# EAGLE library part SWD_DT15-08PA (library RescueRunner)
SWD Programming header (Deutsch DT15-08PA Version) Description: SWD Programming with Deutsch DT15-08PA footprint
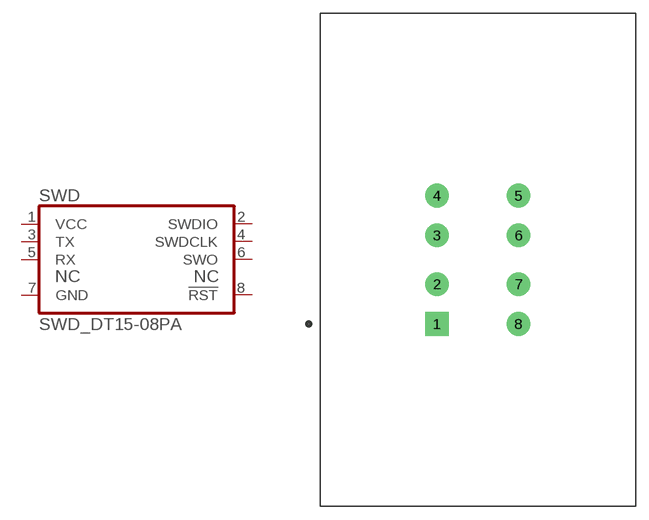
[diagram p23: symbol with the pads of TE_DT15-08PA; footprint TE_DT15-08PA]

Designator prefix SWD

## SWD_DT15-08PA  [TE_DT15-08PA]
1  VCC  pas
2  SWDIO  pas
3  TX  pas
4  SWDCLK  pas
5  RX  pas
6  SWO  pas
7  GND  pas
8  !RST  pas

## Footprint TE_DT15-08PA (pad centres in mm)
drill 1.77 square: 1 -4.56,-7.18
drill 1.77: 2 -4.56,-2.73; 3 -4.56,2.73; 4 -4.56,7.17; 5 4.56,7.17; 6 4.56,2.73; 7 4.56,-2.73; 8 4.56,-7.18